# EAGLE library part LM311 (library _mtvl_ic)
COMPARATOR
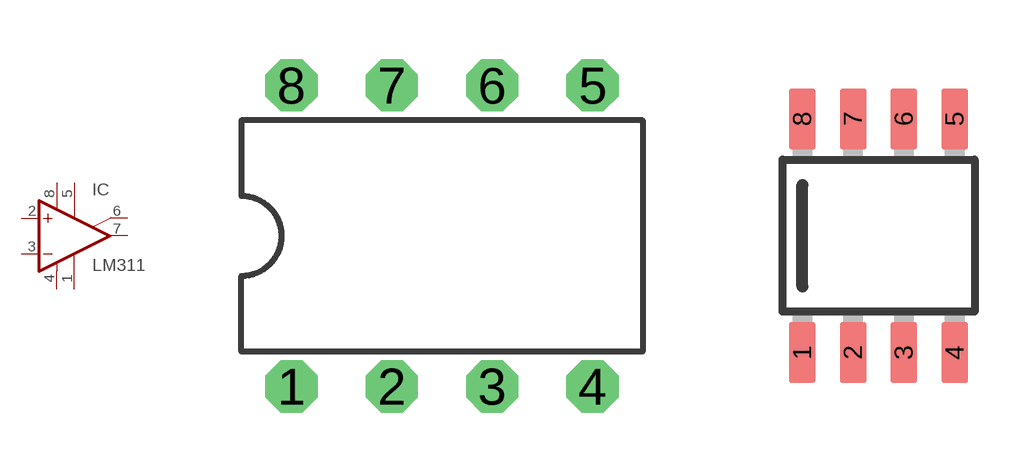
[diagram p39: symbol with the pads of DIP8; footprints DIP8, SO08]

Designator prefix IC

## LM311N  [DIP8]
1  GND  pas
2  +IN  in
3  -IN  in
4  V-  pwr
5  ON  pas
6  ON/STR  pas
7  OUT  out
8  V+  pwr

## LM311D  [SO08]
Pads as for DIP8

## Footprint DIP8 (pad centres in mm)
Dual In Line Package
drill 0.813 pad 1.27 octagon: 1 -3.81,-3.81; 2 -1.27,-3.81; 3 1.27,-3.81; 4 3.81,-3.81; 5 3.81,3.81; 6 1.27,3.81; 7 -1.27,3.81; 8 -3.81,3.81

## Footprint SO08 (pad centres in mm)
Small Outline Package 8
smd 0.66 x 1.524: 1 -1.905,-2.921; 2 -0.635,-2.921; 3 0.635,-2.921; 4 1.905,-2.921; 5 1.905,2.921; 6 0.635,2.921; 7 -0.635,2.921; 8 -1.905,2.921